# EAGLE library part TIEVOX_CAR_25 (library connectors)
TIEVox Car Interface Based on a D-SUB 25 conncection. A male version has to be built into the car as well.
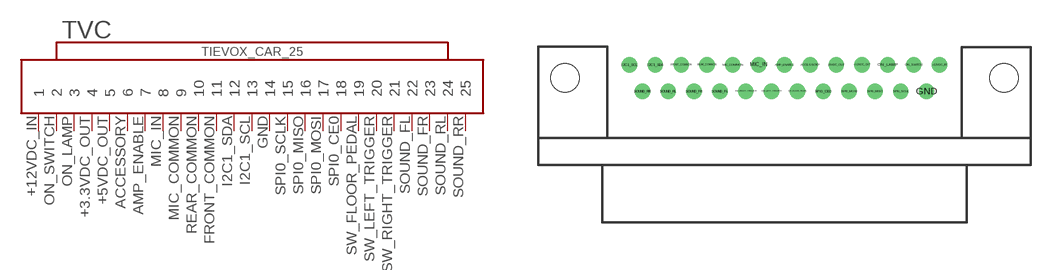
[diagram p1: symbol with the pads of D-SUB25; footprint D-SUB25]

Designator prefix TVC

## TIEVOX_CAR_25 (VALUE: TIEVox Car Interface)  [D-SUB25]
+3.3VDC_OUT  4
+5VDC_OUT  5
+12VDC_IN  1
ACCESSORY  6
AMP_ENABLE  7
FRONT_COMMON  11
GND  14
I2C1_SCL  13
I2C1_SDA  12
MIC_COMMON  9
MIC_IN  8
ON_LAMP  3
ON_SWITCH  2
REAR_COMMON  10
SOUND_FL  22
SOUND_FR  23
SOUND_RL  24
SOUND_RR  25
SPI0_CE0  18
SPI0_MISO  16
SPI0_MOSI  17
SPI0_SCLK  15
SW_FLOOR_PEDAL  19
SW_LEFT_TRIGGER  20
SW_RIGHT_TRIGGER  21

## Footprint D-SUB25 (pad centres in mm)
uxcell Right-angle D-SUB 25 female connector
drill 1.092: +3.3VDC_OUT 8.306,1.422; +5VDC_OUT 5.537,1.422; +12VDC_IN 16.612,1.422; ACCESSORY 2.769,1.422; AMP_ENABLE 0,1.422; FRONT_COMMON -11.074,1.422; GND 15.227,-1.422; I2C1_SCL -16.612,1.422; I2C1_SDA -13.843,1.422; MIC_COMMON -5.537,1.422; MIC_IN -2.769,1.422; ON_LAMP 11.074,1.422; ON_SWITCH 13.843,1.422; REAR_COMMON -8.306,1.422; SOUND_FL -6.921,-1.422; SOUND_FR -9.69,-1.422; SOUND_RL -12.459,-1.422; SOUND_RR -15.227,-1.422; SPI0_CE0 4.153,-1.422; SPI0_MISO 9.69,-1.422; SPI0_MOSI 6.921,-1.422; SPI0_SCLK 12.459,-1.422; SW_FLOOR_PEDAL 1.384,-1.422; SW_LEFT_TRIGGER -1.384,-1.422; SW_RIGHT_TRIGGER -4.153,-1.422
hole 3.048 at -23.52,0
hole 3.048 at 23.52,0